# Altium schematic symbol library protection.SchLib: 4 symbols
Pins are listed as number, name and electrical type; pins without a type are passive.

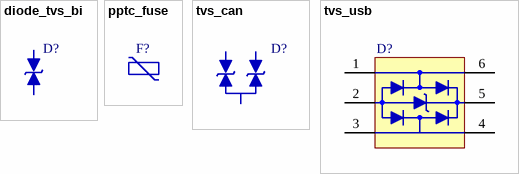
[diagram p0: symbols diode_tvs_bi to tvs_usb]

## diode_tvs_bi
designator D?
=Description
pins: 1 Anode, 2 Cathode

## pptc_fuse
designator F?
=Description
pins: 1, 2

## tvs_can
designator D?
=Description
pins: 1, 2, 3

## tvs_usb
designator D?
=Description
pins: 1, 2, 3, 4, 5, 6